# EAGLE library part 749119133 (library WE-POE)
WE-PoE Power over Ethernet Transformer Characteristics Flyback transformer designed for PoE PDs Input voltage: 36 V to 57 V Switching frequencies: 200–500 kHz Operating temperature: –40 ºC to +125 ºC Isolation voltage: 1.5 kVAC/1 min Different output powers and voltages available Applications PoE powered devices IP Phones WLAN Access Points Access control terminals Security cameras <https://www.we-online.com/components/media/o766301v209%20Family-POE.jpg> Details see: www.we-online.com/en/components/products/WE-POE <www.we-online.com/catalog/WE-POE/?utm_source=eagle_model&utm_medium=description_link&utm_campaign=eisos_eagle> Updated by Ella 2024-09-13 2024 (C) Wurth Elektronik
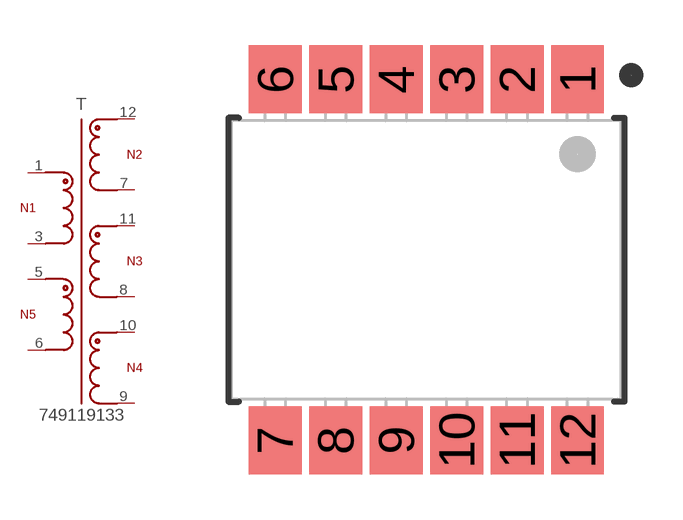
[diagram p28: symbol with the pads of WE-POE_ER11/5; footprint WE-POE_ER11/5]

Designator prefix T

## 749119133 (DATASHEET-URL: https://www.we-online.com/redexpert/spec/749119133?ae; IO1: 0.4A; IO2: 0.4A; IO3: 0.4A; L: 400uH; MOUNT: SMT; N: 12:1:1:1:3; PART-NUMBER: 749119133; SIZE: ER11/5; VALUE: 749119133; VERSION: Flyback; VIN: 36 - 57 V (DC); VO1: 3.3V; VO2: 3.3V; VO3: 3.3V; VT: 1500VAC)  [WE-POE_ER11/5]
1  1  pas
3  3  pas
5  5  pas
6  6  pas
7  7  pas
8  8  pas
9  9  pas
10  10  pas
11  11  pas
12  12  pas

## Footprint WE-POE_ER11/5 (pad centres in mm)
WE-PoE Power over Ethernet Transformer ER11/5, SMT, 12Pins
smd 1.75 x 2.25: 1 5,5.975; 2 3,5.975; 3 1,5.975; 4 -1,5.975; 5 -3,5.975; 6 -5,5.975; 7 -5,-5.975; 8 -3,-5.975; 9 -1,-5.975; 10 1,-5.975; 11 3,-5.975; 12 5,-5.975